# Altium schematic symbol library 1EDN7550BXTSA1.SchLib: 1 symbol
Pins are listed as number, name and electrical type; pins without a type are passive.

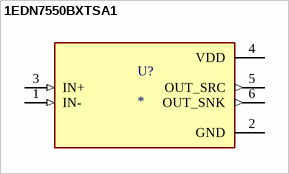
[diagram p0: symbol 1EDN7550BXTSA1]

## 1EDN7550BXTSA1
designator U?
High-Side Gate Driver IC Non-Inverting PG-SOT23-6; MP: 1EDN7550BXTSA1; MF: {'manufacturer': u'Infineon Technologies'}; Value: *; Package: None; Price: None; Availability: Unavailable
footprint SOT95P280X145-6N
pins: 1 IN- (in), 2 GND (power), 3 IN+ (in), 4 VDD (power), 5 OUT_SRC (out), 6 OUT_SNK (out)